# Altium footprint library PCB - LEADLESS - QFN - LINEAR WFQFN-38 5X7MM.PcbLib: 1 footprints
Each footprint in its own frame and in the unit in brackets; x right, y up, seen from the top. Pads: shape width x height; smd on the part's side, far side on the other; paste and mask are expansions set on the pad; w line width, h text height; cw(c..) or ccw(c..) is an arc to the next point about the centre after c.
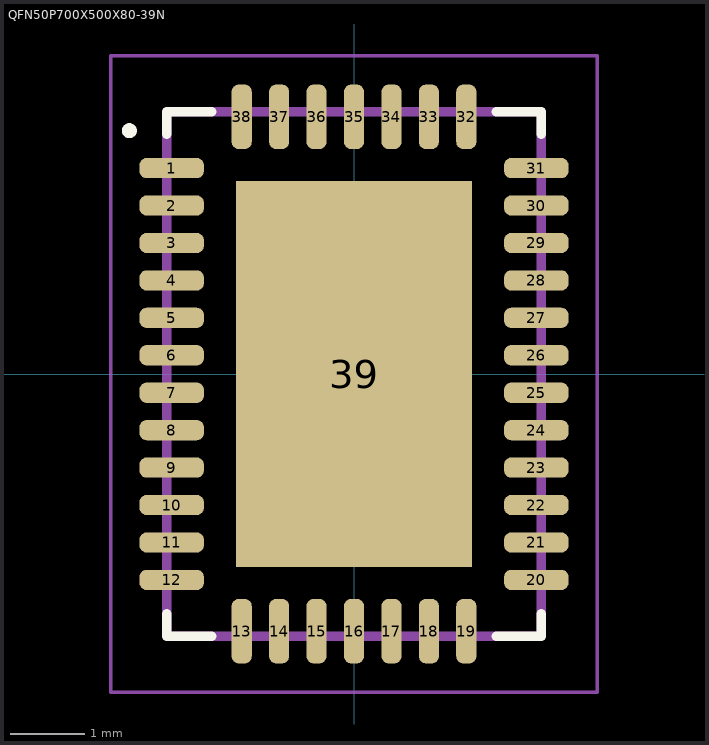
[diagram p0: the footprint, top view; thin cyan lines are the x and y axes]

## QFN50P700X500X80-39N [mm]
pads (39):
  rrect70% 0.86x0.27 smd: 1(-2.435,2.75) 2(-2.435,2.25) 3(-2.435,1.75) 4(-2.435,1.25) 5(-2.435,0.75) 6(-2.435,0.25) 7(-2.435,-0.25) 8(-2.435,-0.75) 9(-2.435,-1.25) 10(-2.435,-1.75) 11(-2.435,-2.25) 12(-2.435,-2.75) 20(2.435,-2.75) 21(2.435,-2.25) 22(2.435,-1.75) 23(2.435,-1.25) 24(2.435,-0.75) 25(2.435,-0.25) 26(2.435,0.25) 27(2.435,0.75) 28(2.435,1.25) 29(2.435,1.75) 30(2.435,2.25) 31(2.435,2.75)
  rrect70% 0.27x0.86 smd: 13(-1.5,-3.435) 14(-1,-3.435) 15(-0.5,-3.435) 16(0,-3.435) 17(0.5,-3.435) 18(1,-3.435) 19(1.5,-3.435) 32(1.5,3.435) 33(1,3.435) 34(0.5,3.435) 35(0,3.435) 36(-0.5,3.435) 37(-1,3.435) 38(-1.5,3.435)
  rect 3.15x5.15 smd paste-4: 39(0,0)
Top Overlay:
  circle w0.1: c-3,3.25 r0.05
  lines w0.127: -2.5,-3.2 -2.5,-3.5 -1.9,-3.5 ; -2.5,3.2 -2.5,3.5 -1.9,3.5 ; 1.9,-3.5 2.5,-3.5 2.5,-3.2 ; 1.9,3.5 2.5,3.5 2.5,3.2
Top Paste:
  region: 1,-1.637 -1.004,-1.637 -1.004,1.63 1,1.63
Mechanical 13:
  lines w0.127: -2.5,-3.5 2.5,-3.5 2.5,3.5 -2.5,3.5 -2.5,-3.5
Mechanical 15:
  lines w0.05: -3.25,-4.25 3.25,-4.25 3.25,4.25 -3.25,4.25 -3.25,-4.25